# Altium schematic symbol library P1.SCHLIB: 1 symbol
Pins are listed as number, name and electrical type; pins without a type are passive.

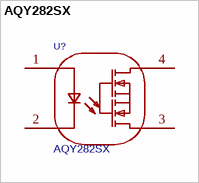
[diagram p0: symbol AQY282SX]

## AQY282SX
designator U?
Contact Form:SPST-NO(1 Form A) Load Current:500mA Load Voltage:60V Load Voltage:60V Voltage - Forward(Vf):1.25V Forward Current(If):50mA RDS(on):850mΩ Isolation Voltage(Vrms):1.5kV Turn-on time:900us Turn-off time:500us Input Type:AC,DC Operating Temperat; Manufacturer: PANASONIC(松下); AddInBom: yes; ModelId: 43a8e8732de74b24a167faf554c5dad4聨0819f05c4eef4c71ace90d822a990e87; ModelName: SOP-4_L4.4-W4.6-H2.1-LS7.0-P2.54; ModelTransform: 173.228,283.69762,0,0,0,0,0,0.005,0; Load Current: 500mA; Load Voltage: 60V; Voltage - Forward(Vf): 1.25V; Forward Current(If): 50mA; RDS(on): 850mΩ; Isolation Voltage(Vrms): 1.5kV; Turn-on time: 900us; Turn-off time: 500us; Input Type: AC,DC; Total Power Dissipation(Pd): 350mW; Insulation Resistance: 1000MΩ; Symbol: AQY282SX; Device: AQY282SX; Supplier: LCSC; Supplier Part: C250827; Manufacturer Part: AQY282SX; JLCPCB Part Class: Extended Part; LCSC Part Name: 1 Form A(SPSTNO) 负载AC,DC 负载电压60V; Supplier Footprint: SOP-4-2.54mm; Datasheet: https://item.szlcsc.com/datasheet/AQY282SX/246604.html; ConvertToPcb: yes; FootprintName: SOP-4_L4.3-W4.4-P2.54-LS7.0-BL; Contact Form: SPST-NO(1 Form A); Operating Temperature: -40℃~+85℃
footprint SOP-4_L4.3-W4.4-P2.54-LS7.0-BL
pins: 1, 2, 3, 4